# EAGLE library part ESPRESSIF-ESP-07S (library vinorodrigues-dev-brds)
ESP8266 Wifi module 07 - 16 pins
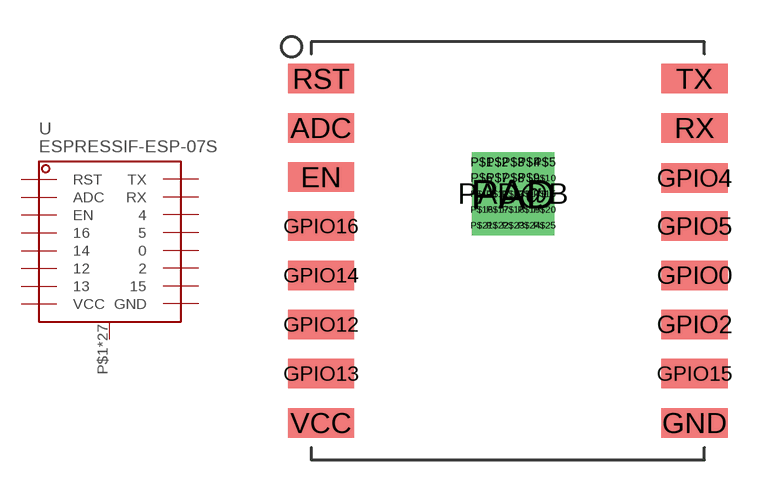
[diagram p1: symbol with the pads of ESP8266-ESP-07S; footprint ESP8266-ESP-07S]

Designator prefix -

## ESPRESSIF-ESP-07S (DIMENSIONS: 22.0 x 16.0 mm; PINS: 16; PITCH: 0.078" / 2 mm)  [ESP8266-ESP-07S]
ADC  ADC
EN  EN
GND  GND
GPIO0  0
GPIO2  2
GPIO4  4
GPIO5  5
GPIO12  12
GPIO13  13
GPIO14  14
GPIO15  15
GPIO16  16
P$1  THRM  nc
P$2  THRM  nc
P$3  THRM  nc
P$4  THRM  nc
P$5  THRM  nc
P$6  THRM  nc
P$7  THRM  nc
P$8  THRM  nc
P$9  THRM  nc
P$10  THRM  nc
P$11  THRM  nc
P$12  THRM  nc
P$13  THRM  nc
P$14  THRM  nc
P$15  THRM  nc
P$16  THRM  nc
P$17  THRM  nc
P$18  THRM  nc
P$19  THRM  nc
P$20  THRM  nc
P$21  THRM  nc
P$22  THRM  nc
P$23  THRM  nc
P$24  THRM  nc
P$25  THRM  nc
PAD  THRM  nc
PAD@B  THRM  nc
RST  RST
RX  RX
TX  TX
VCC  VCC  pwr

## Footprint ESP8266-ESP-07S (pad centres in mm)
ESP8266 Module ESP-07 - 16 pins
smd 2.7 x 1.2: ADC -7.6,4.61; EN -7.6,2.61; GND 7.6,-7.39; GPIO0 7.6,-1.39; GPIO2 7.6,-3.39; GPIO4 7.6,2.562; GPIO5 7.6,0.61; GPIO12 -7.6,-3.39; GPIO13 -7.6,-5.39; GPIO14 -7.6,-1.39; GPIO15 7.6,-5.39; GPIO16 -7.6,0.61; RST -7.6,6.61; RX 7.6,4.61; TX 7.6,6.61; VCC -7.6,-7.39
drill 0.3 pad 0.64 square: P$1 -1.06,3.207; P$2 -0.42,3.207; P$3 0.22,3.207; P$4 0.86,3.207; P$5 1.5,3.207; P$6 -1.06,2.567; P$7 -0.42,2.567; P$8 0.22,2.567; P$9 0.86,2.567; P$10 1.5,2.567; P$11 -1.06,1.927; P$12 -0.42,1.927; P$13 0.22,1.927; P$14 0.86,1.927; P$15 1.5,1.927; P$16 -1.06,1.287; P$17 -0.42,1.287; P$18 0.22,1.287; P$19 0.86,1.287; P$20 1.5,1.287; P$21 -1.06,0.647; P$22 -0.42,0.647; P$23 0.22,0.647; P$24 0.86,0.647; P$25 1.5,0.647
smd 3.2 x 3.2: PAD 0.22,1.927
smd 3.2 x 3.2 bottom: PAD@B 0.22,1.927